# Altium footprint library 638263122008.PcbLib: 1 footprints
Each footprint in its own frame and in the unit in brackets; x right, y up, seen from the top. Pads: shape width x height; smd on the part's side, far side on the other; paste and mask are expansions set on the pad; w line width, h text height; cw(c..) or ccw(c..) is an arc to the next point about the centre after c.
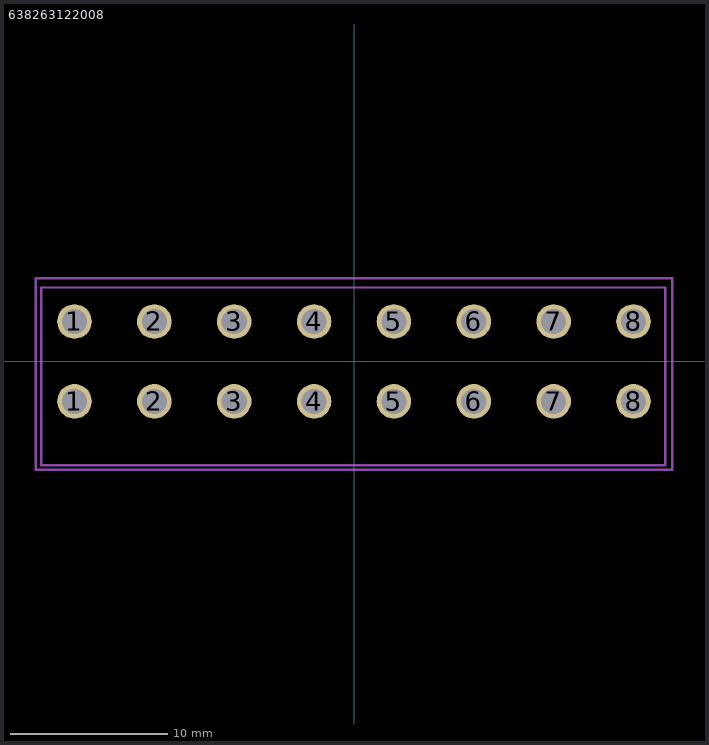
[diagram p0: the footprint, top view; thin cyan lines are the x and y axes]

## 638263122008 [mm]
pads (16):
  round 2.2 hole 1.6: 1(-17.78,-2.54) 1(-17.78,2.54) 2(-12.7,-2.54) 2(-12.7,2.54) 3(-7.62,-2.54) 3(-7.62,2.54) 4(-2.54,-2.54) 4(-2.54,2.54) 5(2.54,-2.54) 5(2.54,2.54) 6(7.62,-2.54) 6(7.62,2.54) 7(12.7,-2.54) 7(12.7,2.54) 8(17.78,-2.54) 8(17.78,2.54)
Top Assembly:
  lines w0.15: -19.9,-6.6 -19.9,4.44 -19.9,4.7 1.22,4.7 19.8,4.7 19.8,4.44 19.8,-6.6 -19.9,-6.6
Top Courtyard:
  lines w0.15: -20.24,-6.9 -20.24,5.3 20.24,5.3 20.24,-4.36 20.24,-6.9 -20.24,-6.9
3D body "638263222008.stp": height 21.15, standoff -3.85, extent -19.94,-6.536 19.74,4.7